# Altium integrated library Memory - FLASH.IntLib: 41 symbols
Pins are listed as number, name and electrical type; pins without a type are passive.

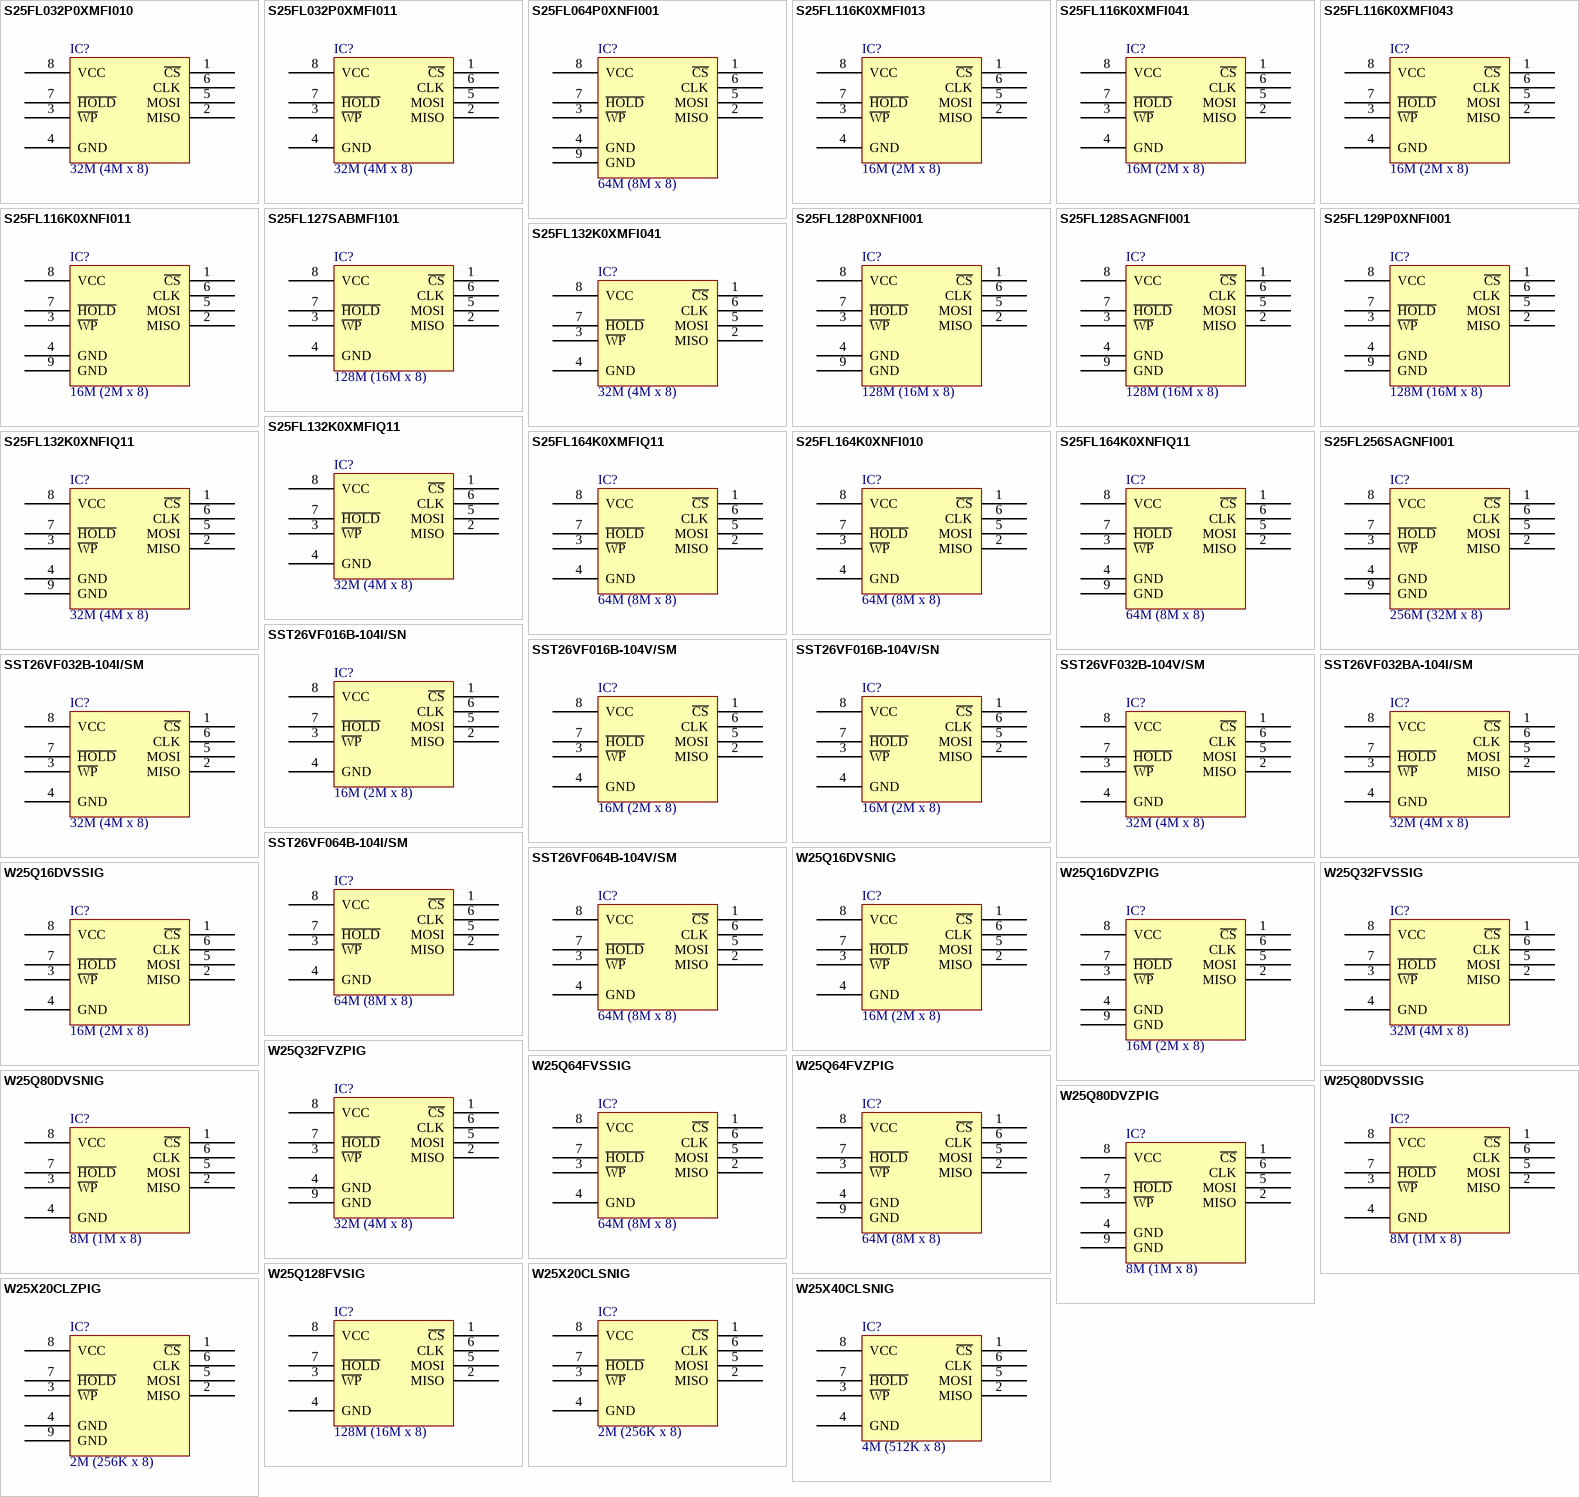
[diagram p0: symbols S25FL032P0XMFI010 to W25X40CLSNIG]

## S25FL032P0XMFI010
designator IC?, comment 32M (4M x 8)
IC FLASH 32MBIT 104MHZ 8SO; Part Number: S25FL032P0XMFI010; Manufacturer: Spansion; Memory Type: FLASH - NOR; Interface: SPI Serial; Voltage - Supply: 2.7 V ~ 3.6 V; PartId: 8286; Supplier 1: Digi-Key; Supplier Part Number 1: 1274-1177-ND; ComponentLink1Description: Datasheet; ComponentLink1URL: http://www.spansion.com/Support/Datasheets/S25FL032P_00.pdf; ComponentLink2Description: Digi-Key Listing; ComponentLink2URL: http://www.digikey.com/product-detail/en/S25FL032P0XMFI010/1274-1177-ND/3862665; Price: 2.26; Type: FLASH - NOR; Device Package: 8-SOIC (0.209", 5.30mm Width); Operating Temperature: -40C ~ 85C; Memory Size: 32M (4M x 8); Speed: 104MHz
footprint SPANSION SOIC-8 208MIL WIDE
pins: 1 ~{CS}, 2 MISO, 3 ~{WP}, 4 GND, 5 MOSI, 6 CLK, 7 ~{HOLD}, 8 VCC

## S25FL032P0XMFI011
designator IC?, comment 32M (4M x 8)
IC FLASH 32MBIT 104MHZ 8SO; Part Number: S25FL032P0XMFI011; Manufacturer: Spansion; Memory Type: FLASH - NOR; Interface: SPI Serial; Voltage - Supply: 2.7 V ~ 3.6 V; PartId: 8281; Supplier 1: Digi-Key; Supplier Part Number 1: S25FL032P0XMFI011-ND; ComponentLink1Description: Datasheet; ComponentLink1URL: http://www.spansion.com/Support/Datasheets/S25FL032P_00.pdf; ComponentLink2Description: Digi-Key Listing; ComponentLink2URL: http://www.digikey.com/product-detail/en/S25FL032P0XMFI011/S25FL032P0XMFI011-ND/3862666; Price: 2.26; Type: FLASH - NOR; Device Package: 8-SOIC (0.209", 5.30mm Width); Operating Temperature: -40C ~ 85C; Memory Size: 32M (4M x 8); Speed: 104MHz
footprint SPANSION SOIC-8 208MIL WIDE
pins: 1 ~{CS}, 2 MISO, 3 ~{WP}, 4 GND, 5 MOSI, 6 CLK, 7 ~{HOLD}, 8 VCC

## S25FL064P0XNFI001
designator IC?, comment 64M (8M x 8)
IC FLASH 64MBIT 104MHZ 8WSON; Part Number: S25FL064P0XNFI001; Manufacturer: Spansion; Memory Type: FLASH - NOR; Interface: SPI Serial; Voltage - Supply: 2.7 V ~ 3.6 V; PartId: 8264; Supplier 1: Digi-Key; Supplier Part Number 1: S25FL064P0XNFI001-ND; ComponentLink1Description: Datasheet; ComponentLink1URL: http://www.spansion.com/Support/Datasheets/S25FL064P_00.pdf; ComponentLink2Description: Digi-Key Listing; ComponentLink2URL: http://www.digikey.com/product-detail/en/S25FL064P0XNFI001/S25FL064P0XNFI001-ND/3862681; Price: 2.76; Type: FLASH - NOR; Device Package: 8-WDFN Exposed Pad; Operating Temperature: -40C ~ 85C; Memory Size: 64M (8M x 8); Speed: 104MHz
footprint SPANSION WSON-8 6x8MM
pins: 1 ~{CS}, 2 MISO, 3 ~{WP}, 4 GND, 5 MOSI, 6 CLK, 7 ~{HOLD}, 8 VCC, 9 GND

## S25FL116K0XMFI013
designator IC?, comment 16M (2M x 8)
IC FLASH MEM 16MB SPI CMOS 8SOIC; Part Number: S25FL116K0XMFI013; Manufacturer: Spansion; Memory Type: FLASH - NOR; Speed: 108MHz; Interface: SPI Serial; Voltage - Supply: 2.7 V ~ 3.6 V; PartId: 8282; Supplier 1: Digi-Key; Supplier Part Number 1: 1274-1123-2-ND; ComponentLink1Description: Datasheet; ComponentLink1URL: http://www.spansion.com/Support/Datasheets/S25FL1-K_00.pdf; ComponentLink2Description: Digi-Key Listing; ComponentLink2URL: http://www.digikey.com/product-detail/en/S25FL116K0XMFI013/1274-1123-2-ND/4517158; Price: 0.3564; Type: FLASH - NOR; Device Package: 8-SOIC (0.209", 5.30mm Width); Operating Temperature: -40C ~ 85C; Memory Size: 16M (2M x 8)
footprint SPANSION SOIC-8 208MIL WIDE
pins: 1 ~{CS}, 2 MISO, 3 ~{WP}, 4 GND, 5 MOSI, 6 CLK, 7 ~{HOLD}, 8 VCC

## S25FL116K0XMFI041
designator IC?, comment 16M (2M x 8)
IC FLASH 16MBIT 8SO; Part Number: S25FL116K0XMFI041; Manufacturer: Spansion; Memory Type: FLASH - NOR; Speed: 108MHz; Interface: SPI Serial; Voltage - Supply: 2.7 V ~ 3.6 V; PartId: 8271; Supplier 1: Digi-Key; Supplier Part Number 1: 1274-1106-ND; ComponentLink1Description: Datasheet; ComponentLink1URL: http://www.spansion.com/Support/Datasheets/S25FL1-K_00.pdf; ComponentLink2Description: Digi-Key Listing; ComponentLink2URL: http://www.digikey.com/product-detail/en/S25FL116K0XMFI041/1274-1106-ND/4457683; Price: 0.47; Type: FLASH - NOR; Device Package: 8-SOIC (0.154", 3.90mm Width); Operating Temperature: -40C ~ 85C; Memory Size: 16M (2M x 8)
footprint SPANSION SOIC-8 150mil Wide
pins: 1 ~{CS}, 2 MISO, 3 ~{WP}, 4 GND, 5 MOSI, 6 CLK, 7 ~{HOLD}, 8 VCC

## S25FL116K0XMFI043
designator IC?, comment 16M (2M x 8)
IC FLASH MEM 16MB SPI CMOS 8SOIC; Part Number: S25FL116K0XMFI043; Manufacturer: Spansion; Memory Type: FLASH - NOR; Speed: 108MHz; Interface: SPI Serial; Voltage - Supply: 2.7 V ~ 3.6 V; PartId: 8270; Supplier 1: Digi-Key; Supplier Part Number 1: 1274-1124-2-ND; ComponentLink1Description: Datasheet; ComponentLink1URL: http://www.spansion.com/Support/Datasheets/S25FL1-K_00.pdf; ComponentLink2Description: Digi-Key Listing; ComponentLink2URL: http://www.digikey.com/product-detail/en/S25FL116K0XMFI043/1274-1124-2-ND/4517159; Price: 0.3453; Type: FLASH - NOR; Device Package: 8-SOIC (0.154", 3.90mm Width); Operating Temperature: -40C ~ 85C; Memory Size: 16M (2M x 8)
footprint SPANSION SOIC-8 150mil Wide
pins: 1 ~{CS}, 2 MISO, 3 ~{WP}, 4 GND, 5 MOSI, 6 CLK, 7 ~{HOLD}, 8 VCC

## S25FL116K0XNFI011
designator IC?, comment 16M (2M x 8)
IC FLASH MEM 16MB SPI CMOS 8WSON; Part Number: S25FL116K0XNFI011; Manufacturer: Spansion; Memory Type: FLASH - NOR; Speed: 108MHz; Interface: SPI Serial; Voltage - Supply: 2.7 V ~ 3.6 V; PartId: 8258; Supplier 1: Digi-Key; Supplier Part Number 1: 1274-1131-ND; ComponentLink1Description: Datasheet; ComponentLink1URL: http://www.spansion.com/Support/Datasheets/S25FL1-K_00.pdf; ComponentLink2Description: Digi-Key Listing; ComponentLink2URL: http://www.digikey.com/product-detail/en/S25FL116K0XNFI011/1274-1131-ND/4517162; Price: 0.49; Type: FLASH - NOR; Device Package: 8-WDFN Exposed Pad; Operating Temperature: -40C ~ 85C; Memory Size: 16M (2M x 8)
footprint SPANSION WSON-8 6x5MM
pins: 1 ~{CS}, 2 MISO, 3 ~{WP}, 4 GND, 5 MOSI, 6 CLK, 7 ~{HOLD}, 8 VCC, 9 GND

## S25FL127SABMFI101
designator IC?, comment 128M (16M x 8)
IC FLASH 128MBIT 108MHZ 8SOIC; Part Number: S25FL127SABMFI101; Manufacturer: Spansion; Memory Type: FLASH - NOR; Interface: SPI Serial; Voltage - Supply: 2.7 V ~ 3.6 V; PartId: 8280; Supplier 1: Digi-Key; Supplier Part Number 1: 1274-1045-ND; ComponentLink1Description: Datasheet; ComponentLink1URL: http://www.spansion.com/Brochures/Spansion_FL-S_serial_Flash_overview.pdf; ComponentLink2Description: Digi-Key Listing; ComponentLink2URL: http://www.digikey.com/product-detail/en/S25FL127SABMFI101/1274-1045-ND/4142071; Price: 2.03; Type: FLASH - NOR; Device Package: 8-SOIC (0.209", 5.30mm Width); Operating Temperature: -40C ~ 85C; Memory Size: 128M (16M x 8); Speed: 108MHz
footprint SPANSION SOIC-8 208MIL WIDE
pins: 1 ~{CS}, 2 MISO, 3 ~{WP}, 4 GND, 5 MOSI, 6 CLK, 7 ~{HOLD}, 8 VCC

## S25FL128P0XNFI001
designator IC?, comment 128M (16M x 8)
IC FLASH 128MBIT 104MHZ 8WSON; Part Number: S25FL128P0XNFI001; Manufacturer: Spansion; Memory Type: FLASH - NOR; Interface: SPI Serial; Voltage - Supply: 2.7 V ~ 3.6 V; PartId: 8262; Supplier 1: Digi-Key; Supplier Part Number 1: 1274-1136-ND; ComponentLink1Description: Datasheet; ComponentLink1URL: http://www.spansion.com/Support/Datasheets/S25FL128P_00.pdf; ComponentLink2Description: Digi-Key Listing; ComponentLink2URL: http://www.digikey.com/product-detail/en/S25FL128P0XNFI001/1274-1136-ND/3862689; Price: 2.41; Type: FLASH - NOR; Device Package: 8-WDFN Exposed Pad; Operating Temperature: -40C ~ 85C; Memory Size: 128M (16M x 8); Speed: 104MHz
footprint SPANSION WSON-8 6x8MM
pins: 1 ~{CS}, 2 MISO, 3 ~{WP}, 4 GND, 5 MOSI, 6 CLK, 7 ~{HOLD}, 8 VCC, 9 GND

## S25FL128SAGNFI001
designator IC?, comment 128M (16M x 8)
IC FLASH 128MBIT 133MHZ 8WSON; Part Number: S25FL128SAGNFI001; Manufacturer: Spansion; Memory Type: FLASH - NOR; Interface: SPI Serial; Voltage - Supply: 2.7 V ~ 3.6 V; PartId: 8263; Supplier 1: Digi-Key; Supplier Part Number 1: 1274-1002-ND; ComponentLink1Description: Datasheet; ComponentLink1URL: http://www.spansion.com/Support/Datasheets/S25FL128S_256S_00.pdf; ComponentLink2Description: Digi-Key Listing; ComponentLink2URL: http://www.digikey.com/product-detail/en/S25FL128SAGNFI001/1274-1002-ND/3761546; Price: 2.48; Type: FLASH - NOR; Device Package: 8-WDFN Exposed Pad; Operating Temperature: -40C ~ 85C; Memory Size: 128M (16M x 8); Speed: 133MHz
footprint SPANSION WSON-8 6x8MM
pins: 1 ~{CS}, 2 MISO, 3 ~{WP}, 4 GND, 5 MOSI, 6 CLK, 7 ~{HOLD}, 8 VCC, 9 GND

## S25FL129P0XNFI001
designator IC?, comment 128M (16M x 8)
IC FLASH 128MBIT 104MHZ 8WSON; Part Number: S25FL129P0XNFI001; Manufacturer: Spansion; Memory Type: FLASH - NOR; Interface: SPI Serial; Voltage - Supply: 2.7 V ~ 3.6 V; PartId: 8261; Supplier 1: Digi-Key; Supplier Part Number 1: 1274-1085-ND; ComponentLink1Description: Datasheet; ComponentLink2Description: Digi-Key Listing; ComponentLink2URL: http://www.digikey.com/product-detail/en/S25FL129P0XNFI001/1274-1085-ND/3862721; Price: 2.37; Type: FLASH - NOR; Device Package: 8-WDFN Exposed Pad; Operating Temperature: -40C ~ 85C; Memory Size: 128M (16M x 8); Speed: 104MHz
footprint SPANSION WSON-8 6x8MM
pins: 1 ~{CS}, 2 MISO, 3 ~{WP}, 4 GND, 5 MOSI, 6 CLK, 7 ~{HOLD}, 8 VCC, 9 GND

## S25FL132K0XMFI041
designator IC?, comment 32M (4M x 8)
IC FLASH 32MBIT 108MHZ 8SOIC; Part Number: S25FL132K0XMFI041; Manufacturer: Spansion; Memory Type: FLASH - NOR; Interface: SPI Serial; Voltage - Supply: 2.7 V ~ 3.6 V; PartId: 8272; Supplier 1: Digi-Key; Supplier Part Number 1: 1274-1134-ND; ComponentLink1Description: Datasheet; ComponentLink1URL: http://www.spansion.com/Support/Datasheets/S25FL1-K_00.pdf; ComponentLink2Description: Digi-Key Listing; ComponentLink2URL: http://www.digikey.com/product-detail/en/S25FL132K0XMFI041/1274-1134-ND/4692909; Price: 0.62; Type: FLASH - NOR; Device Package: 8-SOIC (0.154", 3.90mm Width); Operating Temperature: -40C ~ 85C; Memory Size: 32M (4M x 8); Speed: 108MHz
footprint SPANSION SOIC-8 150mil Wide
pins: 1 ~{CS}, 2 MISO, 3 ~{WP}, 4 GND, 5 MOSI, 6 CLK, 7 ~{HOLD}, 8 VCC

## S25FL132K0XMFIQ11
designator IC?, comment 32M (4M x 8)
IC FLASH 32MBIT; Part Number: S25FL132K0XMFIQ11; Manufacturer: Spansion; Memory Type: FLASH - NOR; Speed: 108MHz; Interface: SPI Serial; Voltage - Supply: 2.7 V ~ 3.6 V; PartId: 8284; Supplier 1: Digi-Key; Supplier Part Number 1: 1274-1142-ND; ComponentLink1Description: Datasheet; ComponentLink1URL: http://www.spansion.com/Support/Datasheets/S25FL1-K_00.pdf; ComponentLink2Description: Digi-Key Listing; ComponentLink2URL: http://www.digikey.com/product-detail/en/S25FL132K0XMFIQ11/1274-1142-ND/4833752; Price: 0.62; Type: FLASH - NOR; Device Package: 8-SOIC (0.209", 5.30mm Width); Operating Temperature: -40C ~ 85C; Memory Size: 32M (4M x 8)
footprint SPANSION SOIC-8 208MIL WIDE
pins: 1 ~{CS}, 2 MISO, 3 ~{WP}, 4 GND, 5 MOSI, 6 CLK, 7 ~{HOLD}, 8 VCC

## S25FL132K0XNFIQ11
designator IC?, comment 32M (4M x 8)
IC FLASH 32MBIT; Part Number: S25FL132K0XNFIQ11; Manufacturer: Spansion; Memory Type: FLASH - NOR; Speed: 108MHz; Interface: SPI Serial; Voltage - Supply: 2.7 V ~ 3.6 V; PartId: 8259; Supplier 1: Digi-Key; Supplier Part Number 1: 1274-1143-ND; ComponentLink1Description: Datasheet; ComponentLink1URL: http://www.spansion.com/Support/Datasheets/S25FL1-K_00.pdf; ComponentLink2Description: Digi-Key Listing; ComponentLink2URL: http://www.digikey.com/product-detail/en/S25FL132K0XNFIQ11/1274-1143-ND/4833757; Price: 0.68; Type: FLASH - NOR; Device Package: 8-WDFN Exposed Pad; Operating Temperature: -40C ~ 85C; Memory Size: 32M (4M x 8)
footprint SPANSION WSON-8 6x5MM
pins: 1 ~{CS}, 2 MISO, 3 ~{WP}, 4 GND, 5 MOSI, 6 CLK, 7 ~{HOLD}, 8 VCC, 9 GND

## S25FL164K0XMFIQ11
designator IC?, comment 64M (8M x 8)
IC FLASH 64MBIT; Part Number: S25FL164K0XMFIQ11; Manufacturer: Spansion; Memory Type: FLASH - NOR; Speed: 108MHz; Interface: SPI Serial; Voltage - Supply: 2.7 V ~ 3.6 V; PartId: 8285; Supplier 1: Digi-Key; Supplier Part Number 1: 1274-1144-ND; ComponentLink1Description: Datasheet; ComponentLink1URL: http://www.spansion.com/Support/Datasheets/S25FL1-K_00.pdf; ComponentLink2Description: Digi-Key Listing; ComponentLink2URL: http://www.digikey.com/product-detail/en/S25FL164K0XMFIQ11/1274-1144-ND/4833762; Price: 0.86; Type: FLASH - NOR; Device Package: 8-SOIC (0.209", 5.30mm Width); Operating Temperature: -40C ~ 85C; Memory Size: 64M (8M x 8)
footprint SPANSION SOIC-8 208MIL WIDE
pins: 1 ~{CS}, 2 MISO, 3 ~{WP}, 4 GND, 5 MOSI, 6 CLK, 7 ~{HOLD}, 8 VCC

## S25FL164K0XNFI010
designator IC?, comment 64M (8M x 8)
IC FLASH 64MBIT 8-WSON; Part Number: S25FL164K0XNFI010; Manufacturer: Spansion; Memory Type: FLASH - NOR; Speed: 108MHz; Interface: SPI Serial; Voltage - Supply: 2.7 V ~ 3.6 V; PartId: 8283; Supplier 1: Digi-Key; Supplier Part Number 1: 1274-1112-ND; ComponentLink1Description: Datasheet; ComponentLink1URL: http://www.spansion.com/Support/Datasheets/S25FL1-K_00.pdf; ComponentLink2Description: Digi-Key Listing; ComponentLink2URL: http://www.digikey.com/product-detail/en/S25FL164K0XNFI010/1274-1112-ND/4494285; Price: 1; Type: FLASH - NOR; Device Package: 8-SOIC (0.209", 5.30mm Width); Operating Temperature: -40C ~ 85C; Memory Size: 64M (8M x 8)
footprint SPANSION SOIC-8 208MIL WIDE
pins: 1 ~{CS}, 2 MISO, 3 ~{WP}, 4 GND, 5 MOSI, 6 CLK, 7 ~{HOLD}, 8 VCC

## S25FL164K0XNFIQ11
designator IC?, comment 64M (8M x 8)
IC FLASH 64MBIT 8WSON; Part Number: S25FL164K0XNFIQ11; Manufacturer: Spansion; Memory Type: FLASH - NOR; Speed: 108MHz; Interface: SPI Serial; Voltage - Supply: 2.7 V ~ 3.6 V; PartId: 8260; Supplier 1: Digi-Key; Supplier Part Number 1: 1274-1167-ND; ComponentLink1Description: Datasheet; ComponentLink1URL: http://www.spansion.com/Support/Datasheets/S25FL1-K_00.pdf; ComponentLink2Description: Digi-Key Listing; ComponentLink2URL: http://www.digikey.com/product-detail/en/S25FL164K0XNFIQ11/1274-1167-ND/4833766; Price: 1; Type: FLASH - NOR; Device Package: 8-WDFN Exposed Pad; Operating Temperature: -40C ~ 85C; Memory Size: 64M (8M x 8)
footprint SPANSION WSON-8 6x5MM
pins: 1 ~{CS}, 2 MISO, 3 ~{WP}, 4 GND, 5 MOSI, 6 CLK, 7 ~{HOLD}, 8 VCC, 9 GND

## S25FL256SAGNFI001
designator IC?, comment 256M (32M x 8)
IC FLASH 256MBIT 133MHZ 8WSON; Part Number: S25FL256SAGNFI001; Manufacturer: Spansion; Memory Type: FLASH - NOR; Interface: SPI Serial; Voltage - Supply: 2.7 V ~ 3.6 V; PartId: 8265; Supplier 1: Digi-Key; Supplier Part Number 1: 1274-1005-ND; ComponentLink1Description: Datasheet; ComponentLink1URL: http://www.spansion.com/Support/Datasheets/S25FL128S_256S_00.pdf; ComponentLink2Description: Digi-Key Listing; ComponentLink2URL: http://www.digikey.com/product-detail/en/S25FL256SAGNFI001/1274-1005-ND/3761549; Price: 3.47; Type: FLASH - NOR; Device Package: 8-WDFN Exposed Pad; Operating Temperature: -40C ~ 85C; Memory Size: 256M (32M x 8); Speed: 133MHz
footprint SPANSION WSON-8 6x8MM
pins: 1 ~{CS}, 2 MISO, 3 ~{WP}, 4 GND, 5 MOSI, 6 CLK, 7 ~{HOLD}, 8 VCC, 9 GND

## SST26VF016B-104I/SN
designator IC?, comment 16M (2M x 8)
IC FLASH 16MBIT; Part Number: SST26VF016B-104I/SN; Manufacturer: Microchip Technology; Speed: 104MHz; Interface: SQI, SPI; Voltage - Supply: 2.7 V ~ 3.6 V; PartId: 8273; Supplier 1: Digi-Key; Supplier Part Number 1: SST26VF016B-104I/SN-ND; ComponentLink1Description: Datasheet; ComponentLink1URL: http://www.microchip.com/mymicrochip/filehandler.aspx?ddocname=en569522; ComponentLink2Description: Digi-Key Listing; ComponentLink2URL: http://www.digikey.com/product-detail/en/SST26VF016B-104I%2FSN/SST26VF016B-104I%2FSN-ND/5033651; Price: 1.16; Type: FLASH; Device Package: 8-SOIC (0.154", 3.90mm Width); Operating Temperature: -40C ~ 85C; Memory Type: FLASH; Memory Size: 16M (2M x 8)
footprint MICROCHIP SOIC-8 150mil Wide
pins: 1 ~{CS}, 2 MISO, 3 ~{WP}, 4 GND, 5 MOSI, 6 CLK, 7 ~{HOLD}, 8 VCC

## SST26VF016B-104V/SM
designator IC?, comment 16M (2M x 8)
IC SERIAL FLASH 16MB SPI 8SOIJ; Part Number: SST26VF016B-104V/SM; Manufacturer: Microchip Technology; Speed: 104MHz; Interface: SQI, SPI; Voltage - Supply: 2.7 V ~ 3.6 V; PartId: 8292; Supplier 1: Digi-Key; Supplier Part Number 1: SST26VF016B-104V/SM-ND; ComponentLink1Description: Datasheet; ComponentLink1URL: http://www.microchip.com/mymicrochip/filehandler.aspx?ddocname=en569522; ComponentLink2Description: Digi-Key Listing; ComponentLink2URL: http://www.digikey.com/product-detail/en/SST26VF016B-104V%2FSM/SST26VF016B-104V%2FSM-ND/5401266; Price: 1.5; Type: FLASH; Device Package: 8-SOIC (0.209", 5.30mm Width); Operating Temperature: -40C ~ 105C; Memory Type: FLASH; Memory Size: 16M (2M x 8)
footprint MICROCHIP SOIC-8 208MIL WIDE
pins: 1 ~{CS}, 2 MISO, 3 ~{WP}, 4 GND, 5 MOSI, 6 CLK, 7 ~{HOLD}, 8 VCC

## SST26VF016B-104V/SN
designator IC?, comment 16M (2M x 8)
IC SERIAL FLASH 16MB SPI 8SOIC; Part Number: SST26VF016B-104V/SN; Manufacturer: Microchip Technology; Speed: 104MHz; Interface: SQI, SPI; Voltage - Supply: 2.7 V ~ 3.6 V; PartId: 8274; Supplier 1: Digi-Key; Supplier Part Number 1: SST26VF016B-104V/SN-ND; ComponentLink1Description: Datasheet; ComponentLink1URL: http://www.microchip.com/mymicrochip/filehandler.aspx?ddocname=en569522; ComponentLink2Description: Digi-Key Listing; ComponentLink2URL: http://www.digikey.com/product-detail/en/SST26VF016B-104V%2FSN/SST26VF016B-104V%2FSN-ND/5401267; Price: 1.33; Type: FLASH; Device Package: 8-SOIC (0.154", 3.90mm Width); Operating Temperature: -40C ~ 105C; Memory Type: FLASH; Memory Size: 16M (2M x 8)
footprint MICROCHIP SOIC-8 150mil Wide
pins: 1 ~{CS}, 2 MISO, 3 ~{WP}, 4 GND, 5 MOSI, 6 CLK, 7 ~{HOLD}, 8 VCC

## SST26VF032B-104I/SM
designator IC?, comment 32M (4M x 8)
IC FLASH 32MBIT; Part Number: SST26VF032B-104I/SM; Manufacturer: Microchip Technology; Speed: 104MHz; Interface: SQI, SPI; Voltage - Supply: 2.7 V ~ 3.6 V; PartId: 8287; Supplier 1: Digi-Key; Supplier Part Number 1: SST26VF032B-104I/SM-ND; ComponentLink1Description: Datasheet; ComponentLink1URL: http://www.microchip.com/mymicrochip/filehandler.aspx?ddocname=en566514; ComponentLink2Description: Digi-Key Listing; ComponentLink2URL: http://www.digikey.com/product-detail/en/SST26VF032B-104I%2FSM/SST26VF032B-104I%2FSM-ND/5033658; Price: 1.51; Type: FLASH; Device Package: 8-SOIC (0.209", 5.30mm Width); Operating Temperature: -40C ~ 85C; Memory Type: FLASH; Memory Size: 32M (4M x 8)
footprint MICROCHIP SOIC-8 208MIL WIDE
pins: 1 ~{CS}, 2 MISO, 3 ~{WP}, 4 GND, 5 MOSI, 6 CLK, 7 ~{HOLD}, 8 VCC

## SST26VF032B-104V/SM
designator IC?, comment 32M (4M x 8)
IC FLASH SPI/SQI 32MB 8SOIC; Part Number: SST26VF032B-104V/SM; Manufacturer: Microchip Technology; Speed: 104MHz; Interface: SQI, SPI; Voltage - Supply: 2.7 V ~ 3.6 V; PartId: 8290; Supplier 1: Digi-Key; Supplier Part Number 1: SST26VF032B-104V/SM-ND; ComponentLink1Description: Datasheet; ComponentLink1URL: http://www.microchip.com/mymicrochip/filehandler.aspx?ddocname=en566514; ComponentLink2Description: Digi-Key Listing; ComponentLink2URL: http://www.digikey.com/product-detail/en/SST26VF032B-104V%2FSM/SST26VF032B-104V%2FSM-ND/5639487; Price: 1.73; Type: FLASH; Device Package: 8-SOIC (0.209", 5.30mm Width); Operating Temperature: -40C ~ 105C; Memory Type: FLASH; Memory Size: 32M (4M x 8)
footprint MICROCHIP SOIC-8 208MIL WIDE
pins: 1 ~{CS}, 2 MISO, 3 ~{WP}, 4 GND, 5 MOSI, 6 CLK, 7 ~{HOLD}, 8 VCC

## SST26VF032BA-104I/SM
designator IC?, comment 32M (4M x 8)
IC FLASH 32MBIT; Part Number: SST26VF032BA-104I/SM; Manufacturer: Microchip Technology; Speed: 104MHz; Interface: SQI, SPI; Voltage - Supply: 2.7 V ~ 3.6 V; PartId: 8289; Supplier 1: Digi-Key; Supplier Part Number 1: SST26VF032BA-104I/SM-ND; ComponentLink1Description: Datasheet; ComponentLink1URL: http://www.microchip.com/mymicrochip/filehandler.aspx?ddocname=en566514; ComponentLink2Description: Digi-Key Listing; ComponentLink2URL: http://www.digikey.com/product-detail/en/SST26VF032BA-104I%2FSM/SST26VF032BA-104I%2FSM-ND/5033660; Price: 1.58; Type: FLASH; Device Package: 8-SOIC (0.209", 5.30mm Width); Operating Temperature: -40C ~ 85C; Memory Type: FLASH; Memory Size: 32M (4M x 8)
footprint MICROCHIP SOIC-8 208MIL WIDE
pins: 1 ~{CS}, 2 MISO, 3 ~{WP}, 4 GND, 5 MOSI, 6 CLK, 7 ~{HOLD}, 8 VCC

## SST26VF064B-104I/SM
designator IC?, comment 64M (8M x 8)
IC FLASH 64MBIT; Part Number: SST26VF064B-104I/SM; Manufacturer: Microchip Technology; Speed: 104MHz; Interface: SQI, SPI; Voltage - Supply: 2.7 V ~ 3.6 V; PartId: 8288; Supplier 1: Digi-Key; Supplier Part Number 1: SST26VF064B-104I/SM-ND; ComponentLink1Description: Datasheet; ComponentLink1URL: http://www.microchip.com/mymicrochip/filehandler.aspx?ddocname=en561262; ComponentLink2Description: Digi-Key Listing; ComponentLink2URL: http://www.digikey.com/product-detail/en/SST26VF064B-104I%2FSM/SST26VF064B-104I%2FSM-ND/5033662; Price: 2.37; Type: FLASH; Device Package: 8-SOIC (0.209", 5.30mm Width); Operating Temperature: -40C ~ 85C; Memory Type: FLASH; Memory Size: 64M (8M x 8)
footprint MICROCHIP SOIC-8 208MIL WIDE
pins: 1 ~{CS}, 2 MISO, 3 ~{WP}, 4 GND, 5 MOSI, 6 CLK, 7 ~{HOLD}, 8 VCC

## SST26VF064B-104V/SM
designator IC?, comment 64M (8M x 8)
IC FLASH SPI/SQI 64MB 8SOIJ; Part Number: SST26VF064B-104V/SM; Manufacturer: Microchip Technology; Speed: 104MHz; Interface: SQI, SPI; Voltage - Supply: 2.7 V ~ 3.6 V; PartId: 8291; Supplier 1: Digi-Key; Supplier Part Number 1: SST26VF064B-104V/SM-ND; ComponentLink1Description: Datasheet; ComponentLink1URL: http://www.microchip.com/mymicrochip/filehandler.aspx?ddocname=en561262; ComponentLink2Description: Digi-Key Listing; ComponentLink2URL: http://www.digikey.com/product-detail/en/SST26VF064B-104V%2FSM/SST26VF064B-104V%2FSM-ND/5639489; Price: 2.72; Type: FLASH; Device Package: 8-SOIC (0.209", 5.30mm Width); Operating Temperature: -40C ~ 105C; Memory Type: FLASH; Memory Size: 64M (8M x 8)
footprint MICROCHIP SOIC-8 208MIL WIDE
pins: 1 ~{CS}, 2 MISO, 3 ~{WP}, 4 GND, 5 MOSI, 6 CLK, 7 ~{HOLD}, 8 VCC

## W25Q16DVSNIG
designator IC?, comment 16M (2M x 8)
IC FLASH 16MBIT 104MHZ 8SOIC; Part Number: W25Q16DVSNIG; Manufacturer: Winbond Electronics; Memory Type: FLASH - NOR; Interface: SPI Serial; Voltage - Supply: 2.7 V ~ 3.6 V; PartId: 8269; Supplier 1: Digi-Key; Supplier Part Number 1: W25Q16DVSNIG-ND; ComponentLink1Description: Datasheet; ComponentLink1URL: http://www.winbond.com/resource-files/w25q16dv_revi_nov1714_web.pdf; ComponentLink2Description: Digi-Key Listing; ComponentLink2URL: http://www.digikey.com/product-detail/en/W25Q16DVSNIG/W25Q16DVSNIG-ND/4037435; Price: 0.45; Type: FLASH - NOR; Device Package: 8-SOIC (0.154", 3.90mm Width); Operating Temperature: -40C ~ 85C; Memory Size: 16M (2M x 8); Speed: 104MHz
footprint WINBOND SOIC-8
pins: 1 ~{CS}, 2 MISO, 3 ~{WP}, 4 GND, 5 MOSI, 6 CLK, 7 ~{HOLD}, 8 VCC

## W25Q16DVSSIG
designator IC?, comment 16M (2M x 8)
IC FLASH 16MBIT 104MHZ 8SOIC; Part Number: W25Q16DVSSIG; Manufacturer: Winbond Electronics; Memory Type: FLASH - NOR; Interface: SPI Serial; Voltage - Supply: 2.7 V ~ 3.6 V; PartId: 8276; Supplier 1: Digi-Key; Supplier Part Number 1: W25Q16DVSSIG-ND; ComponentLink1Description: Datasheet; ComponentLink1URL: http://www.winbond.com/resource-files/w25q16dv_revi_nov1714_web.pdf; ComponentLink2Description: Digi-Key Listing; ComponentLink2URL: http://www.digikey.com/product-detail/en/W25Q16DVSSIG/W25Q16DVSSIG-ND/4037437; Price: 0.45; Type: FLASH - NOR; Device Package: 8-SOIC (0.209", 5.30mm Width); Operating Temperature: -40C ~ 85C; Memory Size: 16M (2M x 8); Speed: 104MHz
footprint WINBOND SOIC-8 208MIL WIDE
pins: 1 ~{CS}, 2 MISO, 3 ~{WP}, 4 GND, 5 MOSI, 6 CLK, 7 ~{HOLD}, 8 VCC

## W25Q16DVZPIG
designator IC?, comment 16M (2M x 8)
IC FLASH 16MBIT 104MHZ 8WSON; Part Number: W25Q16DVZPIG; Manufacturer: Winbond Electronics; Memory Type: FLASH - NOR; Interface: SPI Serial; Voltage - Supply: 2.7 V ~ 3.6 V; PartId: 8255; Supplier 1: Digi-Key; Supplier Part Number 1: W25Q16DVZPIG-ND; ComponentLink1Description: Datasheet; ComponentLink1URL: http://www.winbond.com/resource-files/w25q16dv_revi_nov1714_web.pdf; ComponentLink2Description: Digi-Key Listing; ComponentLink2URL: http://www.digikey.com/product-detail/en/W25Q16DVZPIG/W25Q16DVZPIG-ND/4037439; Price: 0.58; Type: FLASH - NOR; Device Package: 8-WDFN Exposed Pad; Operating Temperature: -40C ~ 85C; Memory Size: 16M (2M x 8); Speed: 104MHz
footprint WINBOND WSON-8 6x5mm
pins: 1 ~{CS}, 2 MISO, 3 ~{WP}, 4 GND, 5 MOSI, 6 CLK, 7 ~{HOLD}, 8 VCC, 9 GND

## W25Q32FVSSIG
designator IC?, comment 32M (4M x 8)
IC FLASH 32MBIT 104MHZ 8SOIC; Part Number: W25Q32FVSSIG; Manufacturer: Winbond Electronics; Memory Type: FLASH - NOR; Interface: SPI Serial; Voltage - Supply: 2.7 V ~ 3.6 V; PartId: 8277; Supplier 1: Digi-Key; Supplier Part Number 1: W25Q32FVSSIG-ND; ComponentLink1Description: Datasheet; ComponentLink1URL: http://www.winbond.com/resource-files/w25q32fv%20revh%20091613.pdf; ComponentLink2Description: Digi-Key Listing; ComponentLink2URL: http://www.digikey.com/product-detail/en/W25Q32FVSSIG/W25Q32FVSSIG-ND/4037404; Price: 0.6; Type: FLASH - NOR; Device Package: 8-SOIC (0.209", 5.30mm Width); Operating Temperature: -40C ~ 85C; Memory Size: 32M (4M x 8); Speed: 104MHz
footprint WINBOND SOIC-8 208MIL WIDE
pins: 1 ~{CS}, 2 MISO, 3 ~{WP}, 4 GND, 5 MOSI, 6 CLK, 7 ~{HOLD}, 8 VCC

## W25Q32FVZPIG
designator IC?, comment 32M (4M x 8)
IC FLASH 32MBIT 104MHZ 8WSON; Part Number: W25Q32FVZPIG; Manufacturer: Winbond Electronics; Memory Type: FLASH - NOR; Interface: SPI Serial; Voltage - Supply: 2.7 V ~ 3.6 V; PartId: 8256; Supplier 1: Digi-Key; Supplier Part Number 1: W25Q32FVZPIG-ND; ComponentLink1Description: Datasheet; ComponentLink1URL: http://www.winbond.com/resource-files/w25q32fv%20revh%20091613.pdf; ComponentLink2Description: Digi-Key Listing; ComponentLink2URL: http://www.digikey.com/product-detail/en/W25Q32FVZPIG/W25Q32FVZPIG-ND/3008633; Price: 0.69; Type: FLASH - NOR; Device Package: 8-WDFN Exposed Pad; Operating Temperature: -40C ~ 85C; Memory Size: 32M (4M x 8); Speed: 104MHz
footprint WINBOND WSON-8 6x5mm
pins: 1 ~{CS}, 2 MISO, 3 ~{WP}, 4 GND, 5 MOSI, 6 CLK, 7 ~{HOLD}, 8 VCC, 9 GND

## W25Q64FVSSIG
designator IC?, comment 64M (8M x 8)
IC FLASH 64MBIT 104MHZ 8SOIC; Part Number: W25Q64FVSSIG; Manufacturer: Winbond Electronics; Memory Type: FLASH - NOR; Interface: SPI Serial; Voltage - Supply: 2.7 V ~ 3.6 V; PartId: 8278; Supplier 1: Digi-Key; Supplier Part Number 1: W25Q64FVSSIG-ND; ComponentLink1Description: Datasheet; ComponentLink1URL: http://www.winbond.com/resource-files/w25q64fv_revl1_100713.pdf; ComponentLink2Description: Digi-Key Listing; ComponentLink2URL: http://www.digikey.com/product-detail/en/W25Q64FVSSIG/W25Q64FVSSIG-ND/2815931; Price: 0.96; Type: FLASH - NOR; Device Package: 8-SOIC (0.209", 5.30mm Width); Operating Temperature: -40C ~ 85C; Memory Size: 64M (8M x 8); Speed: 104MHz
footprint WINBOND SOIC-8 208MIL WIDE
pins: 1 ~{CS}, 2 MISO, 3 ~{WP}, 4 GND, 5 MOSI, 6 CLK, 7 ~{HOLD}, 8 VCC

## W25Q64FVZPIG
designator IC?, comment 64M (8M x 8)
IC FLASH 64MBIT 104MHZ 8WSON; Part Number: W25Q64FVZPIG; Manufacturer: Winbond Electronics; Memory Type: FLASH - NOR; Interface: SPI Serial; Voltage - Supply: 2.7 V ~ 3.6 V; PartId: 8257; Supplier 1: Digi-Key; Supplier Part Number 1: W25Q64FVZPIG-ND; ComponentLink1Description: Datasheet; ComponentLink1URL: http://www.winbond.com/resource-files/w25q64fv_revl1_100713.pdf; ComponentLink2Description: Digi-Key Listing; ComponentLink2URL: http://www.digikey.com/product-detail/en/W25Q64FVZPIG/W25Q64FVZPIG-ND/2815932; Price: 1.08; Type: FLASH - NOR; Device Package: 8-WDFN Exposed Pad; Operating Temperature: -40C ~ 85C; Memory Size: 64M (8M x 8); Speed: 104MHz
footprint WINBOND WSON-8 6x5mm
pins: 1 ~{CS}, 2 MISO, 3 ~{WP}, 4 GND, 5 MOSI, 6 CLK, 7 ~{HOLD}, 8 VCC, 9 GND

## W25Q80DVSNIG
designator IC?, comment 8M (1M x 8)
IC FLASH 8MBIT 104MHZ 8SOIC; Part Number: W25Q80DVSNIG; Manufacturer: Winbond Electronics; Memory Type: FLASH - NOR; Interface: SPI Serial; Voltage - Supply: 2.7 V ~ 3.6 V; PartId: 8268; Supplier 1: Digi-Key; Supplier Part Number 1: W25Q80DVSNIG-ND; ComponentLink1Description: Datasheet; ComponentLink1URL: http://www.winbond.com/resource-files/w25q80dv_revf_02112015.pdf; ComponentLink2Description: Digi-Key Listing; ComponentLink2URL: http://www.digikey.com/product-detail/en/W25Q80DVSNIG/W25Q80DVSNIG-ND/4878496; Price: 0.36; Type: FLASH - NOR; Device Package: 8-SOIC (0.154", 3.90mm Width); Operating Temperature: -40C ~ 85C; Memory Size: 8M (1M x 8); Speed: 104MHz
footprint WINBOND SOIC-8
pins: 1 ~{CS}, 2 MISO, 3 ~{WP}, 4 GND, 5 MOSI, 6 CLK, 7 ~{HOLD}, 8 VCC

## W25Q80DVSSIG
designator IC?, comment 8M (1M x 8)
IC FLASH 8MBIT 104MHZ 8SOIC; Part Number: W25Q80DVSSIG; Manufacturer: Winbond Electronics; Memory Type: FLASH - NOR; Interface: SPI Serial; Voltage - Supply: 2.7 V ~ 3.6 V; PartId: 8275; Supplier 1: Digi-Key; Supplier Part Number 1: W25Q80DVSSIG-ND; ComponentLink1Description: Datasheet; ComponentLink1URL: http://www.winbond.com/resource-files/w25q80dv_revf_02112015.pdf; ComponentLink2Description: Digi-Key Listing; ComponentLink2URL: http://www.digikey.com/product-detail/en/W25Q80DVSSIG/W25Q80DVSSIG-ND/4836572; Price: 0.36; Type: FLASH - NOR; Device Package: 8-SOIC (0.209", 5.30mm Width); Operating Temperature: -40C ~ 85C; Memory Size: 8M (1M x 8); Speed: 104MHz
footprint WINBOND SOIC-8 208MIL WIDE
pins: 1 ~{CS}, 2 MISO, 3 ~{WP}, 4 GND, 5 MOSI, 6 CLK, 7 ~{HOLD}, 8 VCC

## W25Q80DVZPIG
designator IC?, comment 8M (1M x 8)
IC FLASH 8MBIT 104MHZ 8WSON; Part Number: W25Q80DVZPIG; Manufacturer: Winbond Electronics; Memory Type: FLASH - NOR; Interface: SPI Serial; Voltage - Supply: 2.7 V ~ 3.6 V; PartId: 8254; Supplier 1: Digi-Key; Supplier Part Number 1: W25Q80DVZPIG-ND; ComponentLink1Description: Datasheet; ComponentLink1URL: http://www.winbond.com/resource-files/w25q80dv_revf_02112015.pdf; ComponentLink2Description: Digi-Key Listing; ComponentLink2URL: http://www.digikey.com/product-detail/en/W25Q80DVZPIG/W25Q80DVZPIG-ND/4878497; Price: 0.5; Type: FLASH - NOR; Device Package: 8-WDFN Exposed Pad; Operating Temperature: -40C ~ 85C; Memory Size: 8M (1M x 8); Speed: 104MHz
footprint WINBOND WSON-8 6x5mm
pins: 1 ~{CS}, 2 MISO, 3 ~{WP}, 4 GND, 5 MOSI, 6 CLK, 7 ~{HOLD}, 8 VCC, 9 GND

## W25Q128FVSIG
designator IC?, comment 128M (16M x 8)
IC FLASH 128MBIT 104MHZ 8SOIC; Part Number: W25Q128FVSIG; Manufacturer: Winbond Electronics; Memory Type: FLASH - NOR; Interface: SPI Serial; Voltage - Supply: 2.7 V ~ 3.6 V; PartId: 8279; Supplier 1: Digi-Key; Supplier Part Number 1: W25Q128FVSIG-ND; ComponentLink1Description: Datasheet; ComponentLink1URL: http://www.winbond.com/resource-files/w25q128fv_revhh1_100913_website1.pdf; ComponentLink2Description: Digi-Key Listing; ComponentLink2URL: http://www.digikey.com/product-detail/en/W25Q128FVSIG/W25Q128FVSIG-ND/3008697; Price: 1.63; Type: FLASH - NOR; Device Package: 8-SOIC (0.209", 5.30mm Width); Operating Temperature: -40C ~ 85C; Memory Size: 128M (16M x 8); Speed: 104MHz
footprint WINBOND SOIC-8 208MIL WIDE
pins: 1 ~{CS}, 2 MISO, 3 ~{WP}, 4 GND, 5 MOSI, 6 CLK, 7 ~{HOLD}, 8 VCC

## W25X20CLSNIG
designator IC?, comment 2M (256K x 8)
IC FLASH 2MBIT 104MHZ 8SOIC; Part Number: W25X20CLSNIG; Manufacturer: Winbond Electronics; Interface: SPI Serial; Voltage - Supply: 2.3 V ~ 3.6 V; PartId: 8266; Supplier 1: Digi-Key; Supplier Part Number 1: W25X20CLSNIG-ND; ComponentLink1Description: Datasheet; ComponentLink1URL: http://www.winbond.com/resource-files/w25x20cl_a02.pdf; ComponentLink2Description: Digi-Key Listing; ComponentLink2URL: http://www.digikey.com/product-detail/en/W25X20CLSNIG/W25X20CLSNIG-ND/3008613; Price: 0.34; Type: FLASH; Device Package: 8-SOIC (0.154", 3.90mm Width); Operating Temperature: -40C ~ 85C; Memory Type: FLASH; Memory Size: 2M (256K x 8); Speed: 104MHz
footprint WINBOND SOIC-8
pins: 1 ~{CS}, 2 MISO, 3 ~{WP}, 4 GND, 5 MOSI, 6 CLK, 7 ~{HOLD}, 8 VCC

## W25X20CLZPIG
designator IC?, comment 2M (256K x 8)
IC FLASH 2MBIT 104MHZ 8WSON; Part Number: W25X20CLZPIG; Manufacturer: Winbond Electronics; Interface: SPI Serial; Voltage - Supply: 2.3 V ~ 3.6 V; PartId: 8253; Supplier 1: Digi-Key; Supplier Part Number 1: W25X20CLZPIG-ND; ComponentLink1Description: Datasheet; ComponentLink1URL: http://www.winbond.com/resource-files/w25x20cl_a02.pdf; ComponentLink2Description: Digi-Key Listing; ComponentLink2URL: http://www.digikey.com/product-detail/en/W25X20CLZPIG/W25X20CLZPIG-ND/3008607; Price: 0.45; Type: FLASH; Device Package: 8-WDFN Exposed Pad; Operating Temperature: -40C ~ 85C; Memory Type: FLASH; Memory Size: 2M (256K x 8); Speed: 104MHz
footprint WINBOND WSON-8 6x5mm
pins: 1 ~{CS}, 2 MISO, 3 ~{WP}, 4 GND, 5 MOSI, 6 CLK, 7 ~{HOLD}, 8 VCC, 9 GND

## W25X40CLSNIG
designator IC?, comment 4M (512K x 8)
IC FLASH 4MBIT 104MHZ 8SOIC; Part Number: W25X40CLSNIG; Manufacturer: Winbond Electronics; Interface: SPI Serial; Voltage - Supply: 2.3 V ~ 3.6 V; PartId: 8267; Supplier 1: Digi-Key; Supplier Part Number 1: W25X40CLSNIG-ND; ComponentLink1Description: Datasheet; ComponentLink1URL: http://www.winbond.com/resource-files/w25x40cl_e01.pdf; ComponentLink2Description: Digi-Key Listing; ComponentLink2URL: http://www.digikey.com/product-detail/en/W25X40CLSNIG/W25X40CLSNIG-ND/3008652; Price: 0.36; Type: FLASH; Device Package: 8-SOIC (0.154", 3.90mm Width); Operating Temperature: -40C ~ 85C; Memory Type: FLASH; Memory Size: 4M (512K x 8); Speed: 104MHz
footprint WINBOND SOIC-8
pins: 1 ~{CS}, 2 MISO, 3 ~{WP}, 4 GND, 5 MOSI, 6 CLK, 7 ~{HOLD}, 8 VCC

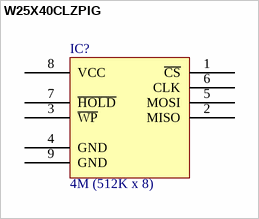
[diagram p1: symbol W25X40CLZPIG]

## W25X40CLZPIG
designator IC?, comment 4M (512K x 8)
IC FLASH 4MBIT 104MHZ 8WSON; Part Number: W25X40CLZPIG; Manufacturer: Winbond Electronics; Interface: SPI Serial; Voltage - Supply: 2.3 V ~ 3.6 V; PartId: 8252; Supplier 1: Digi-Key; Supplier Part Number 1: W25X40CLZPIG-ND; ComponentLink1Description: Datasheet; ComponentLink1URL: http://www.winbond.com/resource-files/w25x40cl_e01.pdf; ComponentLink2Description: Digi-Key Listing; ComponentLink2URL: http://www.digikey.com/product-detail/en/W25X40CLZPIG/W25X40CLZPIG-ND/3008616; Price: 0.45; Type: FLASH; Device Package: 8-WDFN Exposed Pad; Operating Temperature: -40C ~ 85C; Memory Type: FLASH; Memory Size: 4M (512K x 8); Speed: 104MHz
footprint WINBOND WSON-8 6x5mm
pins: 1 ~{CS}, 2 MISO, 3 ~{WP}, 4 GND, 5 MOSI, 6 CLK, 7 ~{HOLD}, 8 VCC, 9 GND